# Altium schematic symbol library THM 3-xx1x WI.SchLib: 1 symbol
Pins are listed as number, name and electrical type; pins without a type are passive.

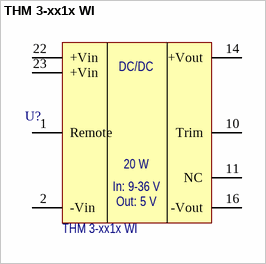
[diagram p0: symbol THM 3-xx1x WI]

## THM 3-xx1x WI
designator U?
DC-DC Converter; Потребление, Вт: 0.0; Назначение: DC-DC Converter; Наименование: THM 3-xx1x WI
footprint THM WI single
pins: 1 Remote (power), 2 -Vin (power), 10 Trim, 11 NC, 14 +Vout (power), 16 -Vout (power), 22 +Vin (power), 23 +Vin (power)
text: DC/DC; 20 W; In: 9-36 V; Out: 5 V